# Altium footprint library SSOP24.PcbLib: 1 footprints
Each footprint in its own frame and in the unit in brackets; x right, y up, seen from the top. Pads: shape width x height; smd on the part's side, far side on the other; paste and mask are expansions set on the pad; w line width, h text height; cw(c..) or ccw(c..) is an arc to the next point about the centre after c.
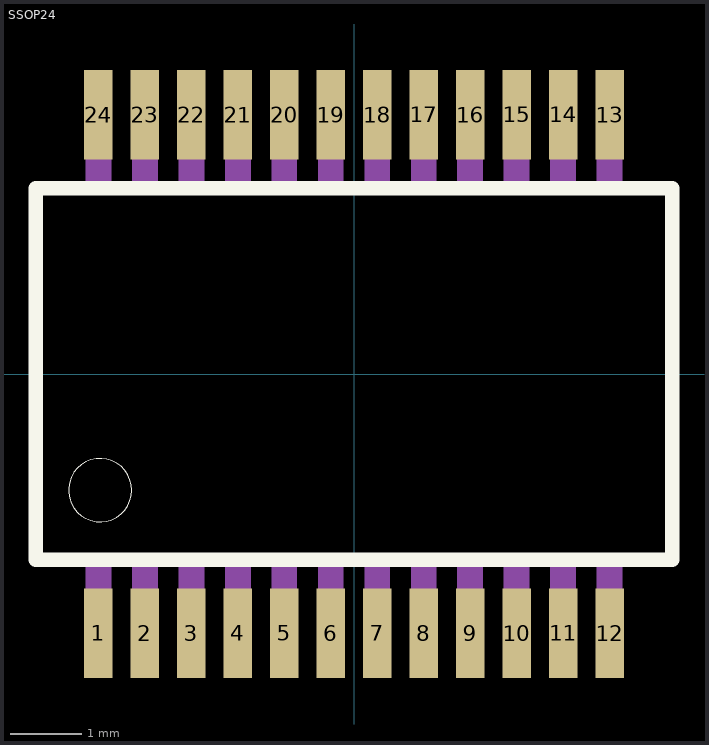
[diagram p0: the footprint, top view; thin cyan lines are the x and y axes]

## SSOP24 [mm]
pads (24):
  rect 0.4x1.25 smd: 1(-3.575,-3.625) 2(-2.925,-3.625) 3(-2.275,-3.625) 4(-1.625,-3.625) 5(-0.975,-3.625) 6(-0.325,-3.625) 7(0.325,-3.625) 8(0.975,-3.625) 9(1.625,-3.625) 10(2.275,-3.625) 11(2.925,-3.625) 12(3.575,-3.625) 13(3.575,3.625) 14(2.925,3.625) 15(2.275,3.625) 16(1.625,3.625) 17(0.975,3.625) 18(0.325,3.625) 19(-0.325,3.625) 20(-0.975,3.625) 21(-1.625,3.625) 22(-2.275,3.625) 23(-2.925,3.625) 24(-3.575,3.625)
Top Overlay:
  circle w0: c-3.55,-1.625 r0.442
  lines w0.203: -4.45,-2.6 4.45,-2.6 4.45,2.6 -4.45,2.6 -4.45,-2.6
Mechanical 13:
  region: -3.397,-3.937 -3.753,-3.937 -3.753,-2.642 -3.397,-2.642
  region: -2.747,-3.937 -3.103,-3.937 -3.103,-2.642 -2.747,-2.642
  region: -2.097,-3.937 -2.453,-3.937 -2.453,-2.642 -2.097,-2.642
  region: -1.447,-3.937 -1.803,-3.937 -1.803,-2.642 -1.447,-2.642
  region: -0.797,-3.937 -1.153,-3.937 -1.153,-2.642 -0.797,-2.642
  region: -0.147,-3.937 -0.503,-3.937 -0.503,-2.642 -0.147,-2.642
  region: 0.503,-3.937 0.147,-3.937 0.147,-2.642 0.503,-2.642
  region: 1.153,-3.937 0.797,-3.937 0.797,-2.642 1.153,-2.642
  region: 1.803,-3.937 1.447,-3.937 1.447,-2.642 1.803,-2.642
  region: 2.453,-3.937 2.097,-3.937 2.097,-2.642 2.453,-2.642
  region: 3.103,-3.937 2.747,-3.937 2.747,-2.642 3.103,-2.642
  region: 3.753,-3.937 3.397,-3.937 3.397,-2.642 3.753,-2.642
  region: 3.753,2.642 3.397,2.642 3.397,3.937 3.753,3.937
  region: 3.103,2.642 2.747,2.642 2.747,3.937 3.103,3.937
  region: 2.453,2.642 2.097,2.642 2.097,3.937 2.453,3.937
  region: 1.803,2.642 1.447,2.642 1.447,3.937 1.803,3.937
  region: 1.153,2.642 0.797,2.642 0.797,3.937 1.153,3.937
  region: 0.503,2.642 0.147,2.642 0.147,3.937 0.503,3.937
  region: -0.147,2.642 -0.503,2.642 -0.503,3.937 -0.147,3.937
  region: -0.797,2.642 -1.153,2.642 -1.153,3.937 -0.797,3.937
  region: -1.447,2.642 -1.803,2.642 -1.803,3.937 -1.447,3.937
  region: -2.097,2.642 -2.453,2.642 -2.453,3.937 -2.097,3.937
  region: -2.747,2.642 -3.103,2.642 -3.103,3.937 -2.747,3.937
  region: -3.397,2.642 -3.753,2.642 -3.753,3.937 -3.397,3.937
3D body "TB6612FNG--3DModel-STEP-510211.STEP": height 1.6, standoff 0, extent -3.9,-3.8 3.9,3.8